# Altium footprint library Vishay_IHLP-2525CZ-01.PcbLib: 1 footprints
Each footprint in its own frame and in the unit in brackets; x right, y up, seen from the top. Pads: shape width x height; smd on the part's side, far side on the other; paste and mask are expansions set on the pad; w line width, h text height; cw(c..) or ccw(c..) is an arc to the next point about the centre after c.
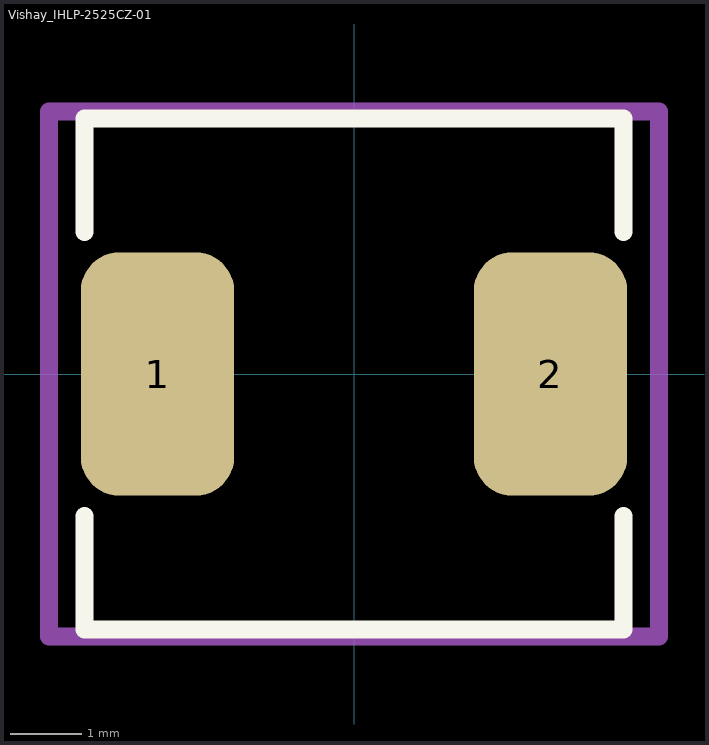
[diagram p0: the footprint, top view; thin cyan lines are the x and y axes]

## Vishay_IHLP-2525CZ-01 [mil] "Visay Dale IHLP-2525CZ-01 series"
height 0.12
pads (2):
  rrect50% 85x135 smd: 1(-109,0) 2(109,0)
Top Overlay:
  lines w10: -149.61,-78.74 -149.61,-141.73 149.61,-141.73 149.61,-78.74 ; -149.61,78.74 -149.61,141.73 149.61,141.73 149.61,78.74
Mechanical 15:
  lines w10: -169.29,-145.67 169.29,-145.67 169.29,145.67 -169.29,145.67 -169.29,-145.67
3D body: height 114.69, standoff 0.69, extent -138,-129.92 138,130.08